# Altium integrated library WD Multiprocessor Interface.IntLib: 3 symbols
Pins are listed as number, name and electrical type; pins without a type are passive.

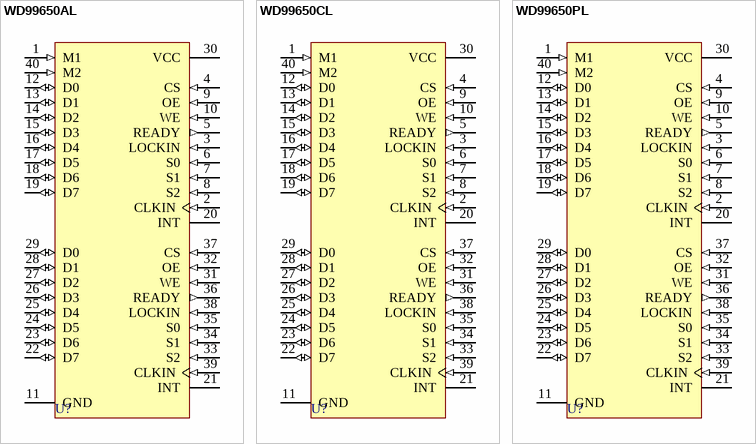
[diagram p0: symbols WD99650AL to WD99650PL]

## WD99650AL
designator U?
Multiprocessor Interface Device; PackageDocument: 1984; Published: 8-Jun-2000; LatestRevisionDate: 4-Mar-2005; LatestRevisionNote: Stylized 3D Model Added.; DatasheetDocument: 1984; PackageReference: AL40; Publisher: Altium Limited; ComponentLink1Description: Manufacturer Link; ComponentLink1URL: http://www.wdc.com/
footprint AL40 (DIP; 40 Leads; Row Spacing 15.24 mm; Pitch 2.54 mm)
3D model AL40 (DIP; 40 Leads; Row Spacing 15.24 mm; Pitch 2.54 mm)
pins: 1 M1 (in), 2 CLKIN (in), 3 LOCKIN (in), 4 CS (in), 5 READY (out), 6 S0 (in), 7 S1 (in), 8 S2 (in), 9 OE (in), 10 WE (in), 11 GND (power), 12 D0 (io), 13 D1 (io), 14 D2 (io), 15 D3 (io), 16 D4 (io), 17 D5 (io), 18 D6 (io), 19 D7 (io), 20 INT (oc), 21 INT (oc), 22 D7 (io), 23 D6 (io), 24 D5 (io), 25 D4 (io), 26 D3 (io), 27 D2 (io), 28 D1 (io), 29 D0 (io), 30 VCC (power), 31 WE (in), 32 OE (in), 33 S2 (in), 34 S1 (in), 35 S0 (in), 36 READY (out), 37 CS (in), 38 LOCKIN (in), 39 CLKIN (in), 40 M2 (in)

## WD99650CL
designator U?
Multiprocessor Interface Device; PackageDocument: 1984; Published: 8-Jun-2000; LatestRevisionDate: 4-Mar-2005; LatestRevisionNote: Stylized 3D Model Added.; DatasheetDocument: 1984; PackageReference: CL40; Publisher: Altium Limited; ComponentLink1Description: Manufacturer Link; ComponentLink1URL: http://www.wdc.com/
footprint CL40 (DIP; 40 Leads; Row Spacing 15.24 mm; Pitch 2.54 mm)
3D model PL40 (DIP; 40 Leads; Row Spacing 15.24 mm; Pitch 2.54 mm)
pins: 1 M1 (in), 2 CLKIN (in), 3 LOCKIN (in), 4 CS (in), 5 READY (out), 6 S0 (in), 7 S1 (in), 8 S2 (in), 9 OE (in), 10 WE (in), 11 GND (power), 12 D0 (io), 13 D1 (io), 14 D2 (io), 15 D3 (io), 16 D4 (io), 17 D5 (io), 18 D6 (io), 19 D7 (io), 20 INT (oc), 21 INT (oc), 22 D7 (io), 23 D6 (io), 24 D5 (io), 25 D4 (io), 26 D3 (io), 27 D2 (io), 28 D1 (io), 29 D0 (io), 30 VCC (power), 31 WE (in), 32 OE (in), 33 S2 (in), 34 S1 (in), 35 S0 (in), 36 READY (out), 37 CS (in), 38 LOCKIN (in), 39 CLKIN (in), 40 M2 (in)

## WD99650PL
designator U?
Multiprocessor Interface Device; PackageDocument: 1984; Published: 8-Jun-2000; LatestRevisionDate: 4-Mar-2005; LatestRevisionNote: Stylized 3D Model Added.; DatasheetDocument: 1984; PackageReference: PL40; Publisher: Altium Limited; ComponentLink1Description: Manufacturer Link; ComponentLink1URL: http://www.wdc.com/
footprint PL40 (DIP; 40 Leads; Row Spacing 15.24 mm; Pitch 2.54 mm)
3D model PL40 (DIP; 40 Leads; Row Spacing 15.24 mm; Pitch 2.54 mm)
pins: 1 M1 (in), 2 CLKIN (in), 3 LOCKIN (in), 4 CS (in), 5 READY (out), 6 S0 (in), 7 S1 (in), 8 S2 (in), 9 OE (in), 10 WE (in), 11 GND (power), 12 D0 (io), 13 D1 (io), 14 D2 (io), 15 D3 (io), 16 D4 (io), 17 D5 (io), 18 D6 (io), 19 D7 (io), 20 INT (oc), 21 INT (oc), 22 D7 (io), 23 D6 (io), 24 D5 (io), 25 D4 (io), 26 D3 (io), 27 D2 (io), 28 D1 (io), 29 D0 (io), 30 VCC (power), 31 WE (in), 32 OE (in), 33 S2 (in), 34 S1 (in), 35 S0 (in), 36 READY (out), 37 CS (in), 38 LOCKIN (in), 39 CLKIN (in), 40 M2 (in)